# EAGLE library part FXCORE (library fxcore)
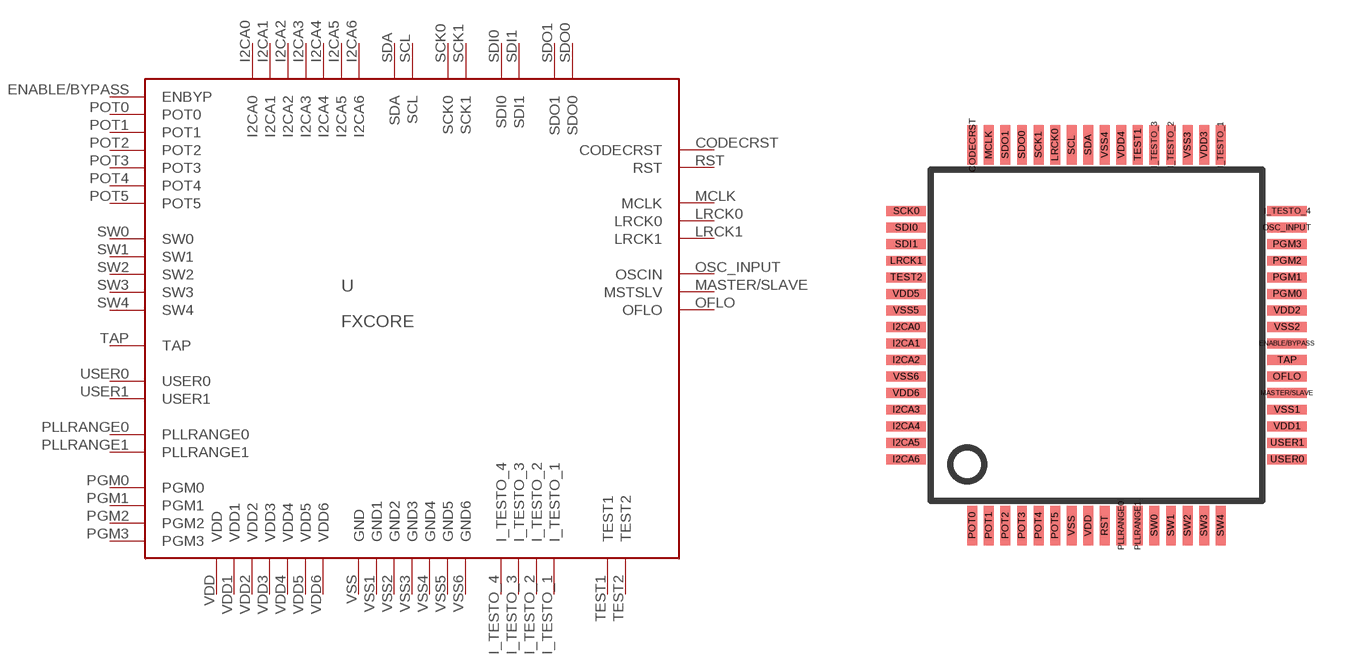
[diagram p0: symbol with the pads of LQFP64; footprint LQFP64]

Designator prefix U

## FXCORE  [LQFP64]
CODECRST  CODECRST  pas
ENABLE/BYPASS  ENBYP  pas
I2CA0  I2CA0
I2CA1  I2CA1
I2CA2  I2CA2
I2CA3  I2CA3
I2CA4  I2CA4
I2CA5  I2CA5
I2CA6  I2CA6
I_TESTO_1  I_TESTO_1
I_TESTO_2  I_TESTO_2
I_TESTO_3  I_TESTO_3
I_TESTO_4  I_TESTO_4
LRCK0  LRCK0  pas
LRCK1  LRCK1  pas
MASTER/SLAVE  MSTSLV  pas
MCLK  MCLK  pas
OFLO  OFLO  pas
OSC_INPUT  OSCIN  pas
PGM0  PGM0
PGM1  PGM1
PGM2  PGM2
PGM3  PGM3
PLLRANGE0  PLLRANGE0  pas
PLLRANGE1  PLLRANGE1  pas
POT0  POT0
POT1  POT1
POT2  POT2
POT3  POT3
POT4  POT4
POT5  POT5
RST  RST  pas
SCK0  SCK0
SCK1  SCK1
SCL  SCL
SDA  SDA
SDI0  SDI0
SDI1  SDI1
SDO0  SDO0
SDO1  SDO1
SW0  SW0
SW1  SW1
SW2  SW2
SW3  SW3
SW4  SW4
TAP  TAP
TEST1  TEST1
TEST2  TEST2
USER0  USER0
USER1  USER1
VDD  VDD  pwr
VDD1  VDD1  pwr
VDD2  VDD2  pwr
VDD3  VDD3  pwr
VDD4  VDD4  pwr
VDD5  VDD5  pwr
VDD6  VDD6  pwr
VSS  GND  pwr
VSS1  GND1  pwr
VSS2  GND2  pwr
VSS3  GND3  pwr
VSS4  GND4  pwr
VSS5  GND5  pwr
VSS6  GND6  pwr

## Footprint LQFP64 (pad centres in mm)
smd 0.3 x 1.2: CODECRST -3.75,5.75; I_TESTO_1 3.75,5.75; I_TESTO_2 2.25,5.75; I_TESTO_3 1.75,5.75; LRCK0 -1.25,5.75; MCLK -3.25,5.75; PLLRANGE0 0.75,-5.75; PLLRANGE1 1.25,-5.75; POT0 -3.75,-5.75; POT1 -3.25,-5.75; POT2 -2.75,-5.75; POT3 -2.25,-5.75; POT4 -1.75,-5.75; POT5 -1.25,-5.75; RST 0.25,-5.75; SCK1 -1.75,5.75; SCL -0.75,5.75; SDA -0.25,5.75; SDO0 -2.25,5.75; SDO1 -2.75,5.75; SW0 1.75,-5.75; SW1 2.25,-5.75; SW2 2.75,-5.75; SW3 3.25,-5.75; SW4 3.75,-5.75; TEST1 1.25,5.75; VDD -0.25,-5.75; VDD3 3.25,5.75; VDD4 0.75,5.75; VSS -0.75,-5.75; VSS3 2.75,5.75; VSS4 0.25,5.75
smd 1.2 x 0.3: ENABLE/BYPASS 5.75,-0.25; I2CA0 -5.75,0.25; I2CA1 -5.75,-0.25; I2CA2 -5.75,-0.75; I2CA3 -5.75,-2.25; I2CA4 -5.75,-2.75; I2CA5 -5.75,-3.25; I2CA6 -5.75,-3.75; I_TESTO_4 5.75,3.75; LRCK1 -5.75,2.25; MASTER/SLAVE 5.75,-1.75; OFLO 5.75,-1.25; OSC_INPUT 5.75,3.25; PGM0 5.75,1.25; PGM1 5.75,1.75; PGM2 5.75,2.25; PGM3 5.75,2.75; SCK0 -5.75,3.75; SDI0 -5.75,3.25; SDI1 -5.75,2.75; TAP 5.75,-0.75; TEST2 -5.75,1.75; USER0 5.75,-3.75; USER1 5.75,-3.25; VDD1 5.75,-2.75; VDD2 5.75,0.75; VDD5 -5.75,1.25; VDD6 -5.75,-1.75; VSS1 5.75,-2.25; VSS2 5.75,0.25; VSS5 -5.75,0.75; VSS6 -5.75,-1.25